# EAGLE library part BM06B-SRSS-TB_LF__SN_ (library BM06B-SRSS-TB_LF__SN_)
Wire To Board / Wire To Wire Connector RoHS Source: Datasheet <http://www.jst-mfg.com/product/pdf/eng/eSR.pdf>
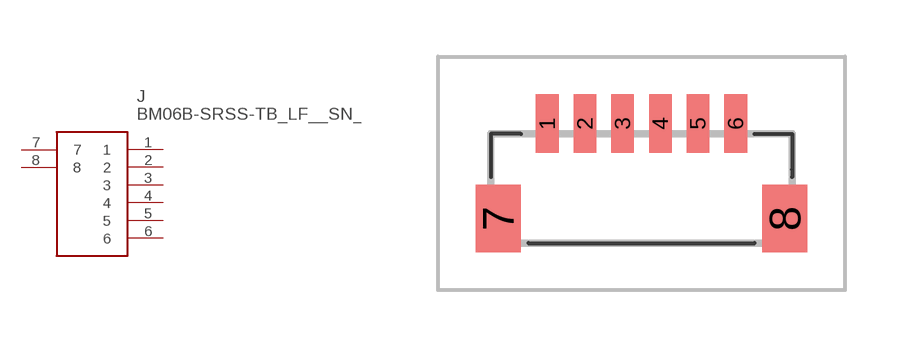
[diagram p0: symbol with the pads of BM06BSRSSTBLFSN; footprint BM06BSRSSTBLFSN]

Designator prefix J

## BM06B-SRSS-TB_LF__SN_ (Description: Wire To Board / Wire To Wire Connector RoHS; Height: 4.25mm; Manufacturer_Name: JST (JAPAN SOLDERLESS TERMINALS); Manufacturer_Part_Number: BM06B-SRSS-TB(LF)(SN); Mouser_Part_Number: N/A; Mouser_Price-Stock: https://www.mouser.co.uk/ProductDetail/JST-Commercial/BM06B-SRSS-TBLFSN?qs=IKkN%2F947nfAcbKIXx%2F1kIg%3D%3D)  [BM06BSRSSTBLFSN]
1  1
2  2
3  3
4  4
5  5
6  6
7  7
8  8

## Footprint BM06BSRSSTBLFSN (pad centres in mm)
BM06B-SRSS-TB(LF)(SN)-2
smd 0.6 x 1.55: 1 -2.5,1.588; 2 -1.5,1.588; 3 -0.5,1.588; 4 0.5,1.588; 5 1.5,1.588; 6 2.5,1.588
smd 1.2 x 1.8: 7 -3.8,-0.937; 8 3.8,-0.937